# Altium integrated library Renesas Diode.IntLib: 1609 symbols (part 14 of 31)
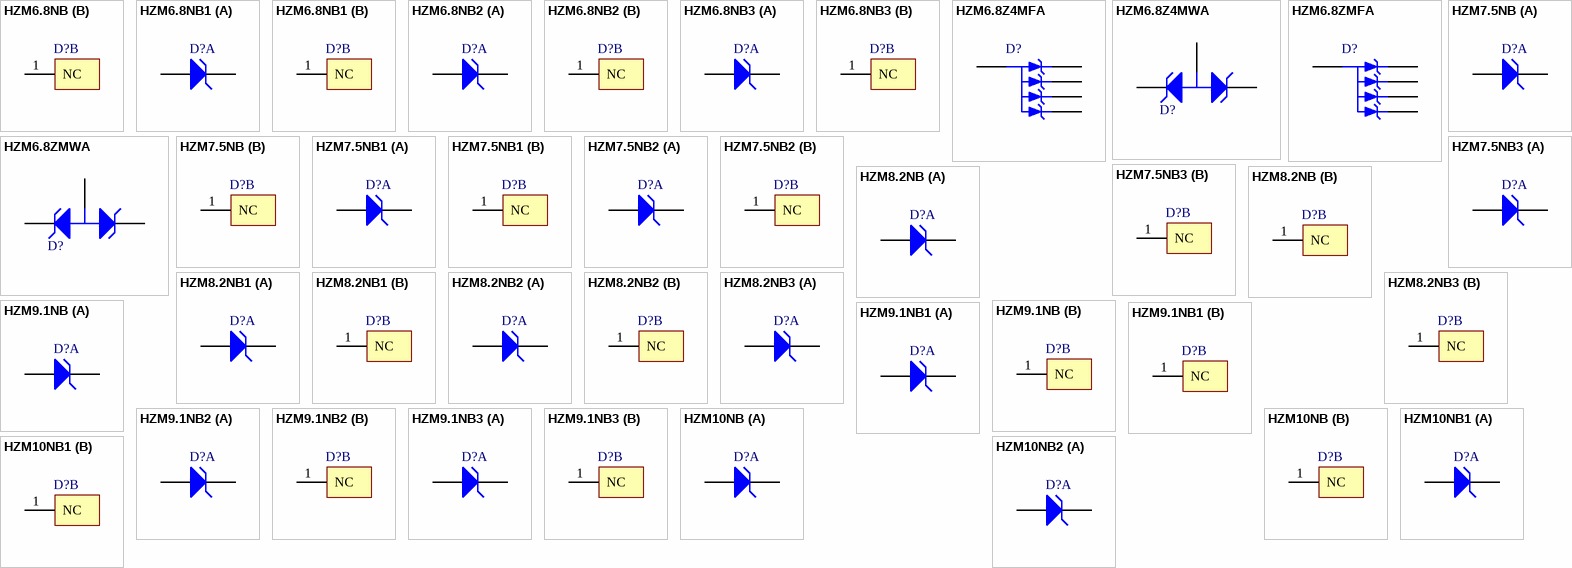
[diagram p58: symbols HZM6.8NB to HZM10NB2]

## HZM6.8Z4MFA
designator D?
Silicon Planar Zener Diode for Surge Absorb; Published: 12-Feb-2010; DatasheetVersion: Rev.1.00, Mar-2004; PackageVersion: Aug-2005; PackageReference: PLSP0005ZC-A; Publisher: Altium Limited; PackageDescription: 5-Pin SOT-23 Package 0.95 mm Pitch, 2.8 mm Lead Span - Reverse Pinning (MPAK-5); Code_JEITA: SC-74A; ComponentLink1Description: Manufacturer Link; ComponentLink1URL: http://sg.renesas.com/fmwk.jsp?cnt=diode_landing.jsp&fp=/products/discrete/diodes/; ComponentLink2Description: Datasheet; ComponentLink2URL: http://documentation.renesas.com/eng/products/diode/rej03g0203_hzm68z4mfa.pdf; ComponentLink3Description: Packaging Specification; ComponentLink3URL: http://sg.renesas.com/media/products/common_info/package/pdf/diode/code/plsp0005zc_a.pdf
footprint PLSP0005ZC-A_N (SOT23, 5-Leads, Body 2.9x1.7mm, Pitch 0.95mm, Lead Span 2.8mm - Reverse Pinning, IPC Medium Density)
footprint PLSP0005ZC-A_L (SOT23, 5-Leads, Body 2.9x1.7mm, Pitch 0.95mm, Lead Span 2.8mm - Reverse Pinning, IPC High Density)
footprint PLSP0005ZC-A_M (SOT23, 5-Leads, Body 2.9x1.7mm, Pitch 0.95mm, Lead Span 2.8mm - Reverse Pinning, IPC Low Density)
signal-integrity model HZM6.8Z4MFA
pins: 1 K1, 2 K2, 3 K3, 4 A, 5 K4

## HZM6.8Z4MWA
designator D?
Silicon Planar Zener Diode for Surge Absorb; Published: 12-Feb-2010; DatasheetVersion: Rev.1.00, Oct-2004; PackageVersion: Aug-2005; PackageReference: PLSP0003ZC-A; Publisher: Altium Limited; PackageDescription: 3-Pin Plastic SOT-23 Package 0.95 mm Pitch, 2.8 mm Lead Span - Alternate Lead Configuration (MPAK); Code_JEITA: SC-59A; ComponentLink1Description: Manufacturer Link; ComponentLink1URL: http://sg.renesas.com/fmwk.jsp?cnt=diode_landing.jsp&fp=/products/discrete/diodes/; ComponentLink2Description: Datasheet; ComponentLink2URL: http://documentation.renesas.com/eng/products/diode/rej03g0369_hzm68z4mwa.pdf; ComponentLink3Description: Packaging Specification; ComponentLink3URL: http://sg.renesas.com/media/products/common_info/package/pdf/diode/code/plsp0003zc_a.pdf
footprint PLSP0003ZC-A_N (SOT23, 3-Leads, Body 2.9x1.5mm, Pitch 0.95mm, Lead Span 2.8mm - Alternate Lead Configuration, IPC Medium Density)
footprint PLSP0003ZC-A_L (SOT23, 3-Leads, Body 2.9x1.5mm, Pitch 0.95mm, Lead Span 2.8mm - Alternate Lead Configuration, IPC High Density)
footprint PLSP0003ZC-A_M (SOT23, 3-Leads, Body 2.9x1.5mm, Pitch 0.95mm, Lead Span 2.8mm - Alternate Lead Configuration, IPC Low Density)
signal-integrity model HZM6.8Z4MWA
pins: 1 K1, 2 K2, 3 A

## HZM6.8ZMFA
designator D?
Silicon Planar Zener Diode for Surge Absorption; Published: 12-Feb-2010; DatasheetVersion: Rev.3.00, Jun-2005; PackageVersion: Aug-2005; PackageReference: PLSP0005ZC-A; Publisher: Altium Limited; PackageDescription: 5-Pin SOT-23 Package 0.95 mm Pitch, 2.8 mm Lead Span - Reverse Pinning (MPAK-5); Code_JEITA: SC-74A; ComponentLink1Description: Manufacturer Link; ComponentLink1URL: http://sg.renesas.com/fmwk.jsp?cnt=diode_landing.jsp&fp=/products/discrete/diodes/; ComponentLink2Description: Datasheet; ComponentLink2URL: http://documentation.renesas.com/eng/products/diode/rej03g1211_hzm68zmfa.pdf; ComponentLink3Description: Packaging Specification; ComponentLink3URL: http://sg.renesas.com/media/products/common_info/package/pdf/diode/code/plsp0005zc_a.pdf
footprint PLSP0005ZC-A_N (SOT23, 5-Leads, Body 2.9x1.7mm, Pitch 0.95mm, Lead Span 2.8mm - Reverse Pinning, IPC Medium Density)
footprint PLSP0005ZC-A_L (SOT23, 5-Leads, Body 2.9x1.7mm, Pitch 0.95mm, Lead Span 2.8mm - Reverse Pinning, IPC High Density)
footprint PLSP0005ZC-A_M (SOT23, 5-Leads, Body 2.9x1.7mm, Pitch 0.95mm, Lead Span 2.8mm - Reverse Pinning, IPC Low Density)
signal-integrity model HZM6.8ZMFA
pins: 1 K1, 2 K2, 3 K3, 4 A, 5 K4

## HZM6.8ZMWA
designator D?
Silicon Planar Zener Diode for Surge Absorption; Published: 12-Feb-2010; DatasheetVersion: Rev.2.00, Jun-2005; PackageVersion: Aug-2005; PackageReference: PLSP0003ZC-A; Publisher: Altium Limited; PackageDescription: 3-Pin Plastic SOT-23 Package 0.95 mm Pitch, 2.8 mm Lead Span - Alternate Lead Configuration (MPAK); Code_JEITA: SC-59A; ComponentLink1Description: Manufacturer Link; ComponentLink1URL: http://sg.renesas.com/fmwk.jsp?cnt=diode_landing.jsp&fp=/products/discrete/diodes/; ComponentLink2Description: Datasheet; ComponentLink2URL: http://documentation.renesas.com/eng/products/diode/rej03g1212_hzm68zmwa.pdf; ComponentLink3Description: Packaging Specification; ComponentLink3URL: http://sg.renesas.com/media/products/common_info/package/pdf/diode/code/plsp0003zc_a.pdf
footprint PLSP0003ZC-A_N (SOT23, 3-Leads, Body 2.9x1.5mm, Pitch 0.95mm, Lead Span 2.8mm - Alternate Lead Configuration, IPC Medium Density)
footprint PLSP0003ZC-A_L (SOT23, 3-Leads, Body 2.9x1.5mm, Pitch 0.95mm, Lead Span 2.8mm - Alternate Lead Configuration, IPC High Density)
footprint PLSP0003ZC-A_M (SOT23, 3-Leads, Body 2.9x1.5mm, Pitch 0.95mm, Lead Span 2.8mm - Alternate Lead Configuration, IPC Low Density)
signal-integrity model HZM6.8ZMWA
pins: 1 K1, 2 K2, 3 A

## HZM7.5NB
designator D?
Silicon Epitaxial Planar Zener Diode for Stabilizer; Published: 12-Feb-2010; DatasheetVersion: Rev.5.00, Dec-2004; PackageVersion: Aug-2005; PackageReference: PLSP0003ZC-A; Publisher: Altium Limited; PackageDescription: 3-Pin Plastic SOT-23 Package 0.95 mm Pitch, 2.8 mm Lead Span - Alternate Lead Configuration (MPAK); Code_JEITA: SC-59A; ComponentLink1Description: Manufacturer Link; ComponentLink1URL: http://sg.renesas.com/fmwk.jsp?cnt=diode_landing.jsp&fp=/products/discrete/diodes/; ComponentLink2Description: Datasheet; ComponentLink2URL: http://documentation.renesas.com/eng/products/diode/rej03g0483_hzm_n.pdf; ComponentLink3Description: Packaging Specification; ComponentLink3URL: http://sg.renesas.com/media/products/common_info/package/pdf/diode/code/plsp0003zc_a.pdf
footprint PLSP0003ZC-A_N (SOT23, 3-Leads, Body 2.9x1.5mm, Pitch 0.95mm, Lead Span 2.8mm - Alternate Lead Configuration, IPC Medium Density)
footprint PLSP0003ZC-A_L (SOT23, 3-Leads, Body 2.9x1.5mm, Pitch 0.95mm, Lead Span 2.8mm - Alternate Lead Configuration, IPC High Density)
footprint PLSP0003ZC-A_M (SOT23, 3-Leads, Body 2.9x1.5mm, Pitch 0.95mm, Lead Span 2.8mm - Alternate Lead Configuration, IPC Low Density)
signal-integrity model HZM7.5NB
part A pins: 2 A, 3 K
part B pins: 1 NC

## HZM7.5NB1
designator D?
Silicon Epitaxial Planar Zener Diode for Stabilizer; Published: 12-Feb-2010; DatasheetVersion: Rev.5.00, Dec-2004; PackageVersion: Aug-2005; PackageReference: PLSP0003ZC-A; Publisher: Altium Limited; PackageDescription: 3-Pin Plastic SOT-23 Package 0.95 mm Pitch, 2.8 mm Lead Span - Alternate Lead Configuration (MPAK); Code_JEITA: SC-59A; ComponentLink1Description: Manufacturer Link; ComponentLink1URL: http://sg.renesas.com/fmwk.jsp?cnt=diode_landing.jsp&fp=/products/discrete/diodes/; ComponentLink2Description: Datasheet; ComponentLink2URL: http://documentation.renesas.com/eng/products/diode/rej03g0483_hzm_n.pdf; ComponentLink3Description: Packaging Specification; ComponentLink3URL: http://sg.renesas.com/media/products/common_info/package/pdf/diode/code/plsp0003zc_a.pdf
footprint PLSP0003ZC-A_N (SOT23, 3-Leads, Body 2.9x1.5mm, Pitch 0.95mm, Lead Span 2.8mm - Alternate Lead Configuration, IPC Medium Density)
footprint PLSP0003ZC-A_L (SOT23, 3-Leads, Body 2.9x1.5mm, Pitch 0.95mm, Lead Span 2.8mm - Alternate Lead Configuration, IPC High Density)
footprint PLSP0003ZC-A_M (SOT23, 3-Leads, Body 2.9x1.5mm, Pitch 0.95mm, Lead Span 2.8mm - Alternate Lead Configuration, IPC Low Density)
signal-integrity model HZM7.5NB1
part A pins: 2 A, 3 K
part B pins: 1 NC

## HZM7.5NB2
designator D?
Silicon Epitaxial Planar Zener Diode for Stabilizer; Published: 12-Feb-2010; DatasheetVersion: Rev.5.00, Dec-2004; PackageVersion: Aug-2005; PackageReference: PLSP0003ZC-A; Publisher: Altium Limited; PackageDescription: 3-Pin Plastic SOT-23 Package 0.95 mm Pitch, 2.8 mm Lead Span - Alternate Lead Configuration (MPAK); Code_JEITA: SC-59A; ComponentLink1Description: Manufacturer Link; ComponentLink1URL: http://sg.renesas.com/fmwk.jsp?cnt=diode_landing.jsp&fp=/products/discrete/diodes/; ComponentLink2Description: Datasheet; ComponentLink2URL: http://documentation.renesas.com/eng/products/diode/rej03g0483_hzm_n.pdf; ComponentLink3Description: Packaging Specification; ComponentLink3URL: http://sg.renesas.com/media/products/common_info/package/pdf/diode/code/plsp0003zc_a.pdf
footprint PLSP0003ZC-A_N (SOT23, 3-Leads, Body 2.9x1.5mm, Pitch 0.95mm, Lead Span 2.8mm - Alternate Lead Configuration, IPC Medium Density)
footprint PLSP0003ZC-A_L (SOT23, 3-Leads, Body 2.9x1.5mm, Pitch 0.95mm, Lead Span 2.8mm - Alternate Lead Configuration, IPC High Density)
footprint PLSP0003ZC-A_M (SOT23, 3-Leads, Body 2.9x1.5mm, Pitch 0.95mm, Lead Span 2.8mm - Alternate Lead Configuration, IPC Low Density)
signal-integrity model HZM7.5NB2
part A pins: 2 A, 3 K
part B pins: 1 NC

## HZM7.5NB3
designator D?
Silicon Epitaxial Planar Zener Diode for Stabilizer; Published: 12-Feb-2010; DatasheetVersion: Rev.5.00, Dec-2004; PackageVersion: Aug-2005; PackageReference: PLSP0003ZC-A; Publisher: Altium Limited; PackageDescription: 3-Pin Plastic SOT-23 Package 0.95 mm Pitch, 2.8 mm Lead Span - Alternate Lead Configuration (MPAK); Code_JEITA: SC-59A; ComponentLink1Description: Manufacturer Link; ComponentLink1URL: http://sg.renesas.com/fmwk.jsp?cnt=diode_landing.jsp&fp=/products/discrete/diodes/; ComponentLink2Description: Datasheet; ComponentLink2URL: http://documentation.renesas.com/eng/products/diode/rej03g0483_hzm_n.pdf; ComponentLink3Description: Packaging Specification; ComponentLink3URL: http://sg.renesas.com/media/products/common_info/package/pdf/diode/code/plsp0003zc_a.pdf
footprint PLSP0003ZC-A_N (SOT23, 3-Leads, Body 2.9x1.5mm, Pitch 0.95mm, Lead Span 2.8mm - Alternate Lead Configuration, IPC Medium Density)
footprint PLSP0003ZC-A_L (SOT23, 3-Leads, Body 2.9x1.5mm, Pitch 0.95mm, Lead Span 2.8mm - Alternate Lead Configuration, IPC High Density)
footprint PLSP0003ZC-A_M (SOT23, 3-Leads, Body 2.9x1.5mm, Pitch 0.95mm, Lead Span 2.8mm - Alternate Lead Configuration, IPC Low Density)
signal-integrity model HZM7.5NB3
part A pins: 2 A, 3 K
part B pins: 1 NC

## HZM8.2NB
designator D?
Silicon Epitaxial Planar Zener Diode for Stabilizer; Published: 12-Feb-2010; DatasheetVersion: Rev.5.00, Dec-2004; PackageVersion: Aug-2005; PackageReference: PLSP0003ZC-A; Publisher: Altium Limited; PackageDescription: 3-Pin Plastic SOT-23 Package 0.95 mm Pitch, 2.8 mm Lead Span - Alternate Lead Configuration (MPAK); Code_JEITA: SC-59A; ComponentLink1Description: Manufacturer Link; ComponentLink1URL: http://sg.renesas.com/fmwk.jsp?cnt=diode_landing.jsp&fp=/products/discrete/diodes/; ComponentLink2Description: Datasheet; ComponentLink2URL: http://documentation.renesas.com/eng/products/diode/rej03g0483_hzm_n.pdf; ComponentLink3Description: Packaging Specification; ComponentLink3URL: http://sg.renesas.com/media/products/common_info/package/pdf/diode/code/plsp0003zc_a.pdf
footprint PLSP0003ZC-A_N (SOT23, 3-Leads, Body 2.9x1.5mm, Pitch 0.95mm, Lead Span 2.8mm - Alternate Lead Configuration, IPC Medium Density)
footprint PLSP0003ZC-A_L (SOT23, 3-Leads, Body 2.9x1.5mm, Pitch 0.95mm, Lead Span 2.8mm - Alternate Lead Configuration, IPC High Density)
footprint PLSP0003ZC-A_M (SOT23, 3-Leads, Body 2.9x1.5mm, Pitch 0.95mm, Lead Span 2.8mm - Alternate Lead Configuration, IPC Low Density)
signal-integrity model HZM8.2NB
part A pins: 2 A, 3 K
part B pins: 1 NC

## HZM8.2NB1
designator D?
Silicon Epitaxial Planar Zener Diode for Stabilizer; Published: 12-Feb-2010; DatasheetVersion: Rev.5.00, Dec-2004; PackageVersion: Aug-2005; PackageReference: PLSP0003ZC-A; Publisher: Altium Limited; PackageDescription: 3-Pin Plastic SOT-23 Package 0.95 mm Pitch, 2.8 mm Lead Span - Alternate Lead Configuration (MPAK); Code_JEITA: SC-59A; ComponentLink1Description: Manufacturer Link; ComponentLink1URL: http://sg.renesas.com/fmwk.jsp?cnt=diode_landing.jsp&fp=/products/discrete/diodes/; ComponentLink2Description: Datasheet; ComponentLink2URL: http://documentation.renesas.com/eng/products/diode/rej03g0483_hzm_n.pdf; ComponentLink3Description: Packaging Specification; ComponentLink3URL: http://sg.renesas.com/media/products/common_info/package/pdf/diode/code/plsp0003zc_a.pdf
footprint PLSP0003ZC-A_N (SOT23, 3-Leads, Body 2.9x1.5mm, Pitch 0.95mm, Lead Span 2.8mm - Alternate Lead Configuration, IPC Medium Density)
footprint PLSP0003ZC-A_L (SOT23, 3-Leads, Body 2.9x1.5mm, Pitch 0.95mm, Lead Span 2.8mm - Alternate Lead Configuration, IPC High Density)
footprint PLSP0003ZC-A_M (SOT23, 3-Leads, Body 2.9x1.5mm, Pitch 0.95mm, Lead Span 2.8mm - Alternate Lead Configuration, IPC Low Density)
signal-integrity model HZM8.2NB1
part A pins: 2 A, 3 K
part B pins: 1 NC

## HZM8.2NB2
designator D?
Silicon Epitaxial Planar Zener Diode for Stabilizer; Published: 12-Feb-2010; DatasheetVersion: Rev.5.00, Dec-2004; PackageVersion: Aug-2005; PackageReference: PLSP0003ZC-A; Publisher: Altium Limited; PackageDescription: 3-Pin Plastic SOT-23 Package 0.95 mm Pitch, 2.8 mm Lead Span - Alternate Lead Configuration (MPAK); Code_JEITA: SC-59A; ComponentLink1Description: Manufacturer Link; ComponentLink1URL: http://sg.renesas.com/fmwk.jsp?cnt=diode_landing.jsp&fp=/products/discrete/diodes/; ComponentLink2Description: Datasheet; ComponentLink2URL: http://documentation.renesas.com/eng/products/diode/rej03g0483_hzm_n.pdf; ComponentLink3Description: Packaging Specification; ComponentLink3URL: http://sg.renesas.com/media/products/common_info/package/pdf/diode/code/plsp0003zc_a.pdf
footprint PLSP0003ZC-A_N (SOT23, 3-Leads, Body 2.9x1.5mm, Pitch 0.95mm, Lead Span 2.8mm - Alternate Lead Configuration, IPC Medium Density)
footprint PLSP0003ZC-A_L (SOT23, 3-Leads, Body 2.9x1.5mm, Pitch 0.95mm, Lead Span 2.8mm - Alternate Lead Configuration, IPC High Density)
footprint PLSP0003ZC-A_M (SOT23, 3-Leads, Body 2.9x1.5mm, Pitch 0.95mm, Lead Span 2.8mm - Alternate Lead Configuration, IPC Low Density)
signal-integrity model HZM8.2NB2
part A pins: 2 A, 3 K
part B pins: 1 NC

## HZM8.2NB3
designator D?
Silicon Epitaxial Planar Zener Diode for Stabilizer; Published: 12-Feb-2010; DatasheetVersion: Rev.5.00, Dec-2004; PackageVersion: Aug-2005; PackageReference: PLSP0003ZC-A; Publisher: Altium Limited; PackageDescription: 3-Pin Plastic SOT-23 Package 0.95 mm Pitch, 2.8 mm Lead Span - Alternate Lead Configuration (MPAK); Code_JEITA: SC-59A; ComponentLink1Description: Manufacturer Link; ComponentLink1URL: http://sg.renesas.com/fmwk.jsp?cnt=diode_landing.jsp&fp=/products/discrete/diodes/; ComponentLink2Description: Datasheet; ComponentLink2URL: http://documentation.renesas.com/eng/products/diode/rej03g0483_hzm_n.pdf; ComponentLink3Description: Packaging Specification; ComponentLink3URL: http://sg.renesas.com/media/products/common_info/package/pdf/diode/code/plsp0003zc_a.pdf
footprint PLSP0003ZC-A_N (SOT23, 3-Leads, Body 2.9x1.5mm, Pitch 0.95mm, Lead Span 2.8mm - Alternate Lead Configuration, IPC Medium Density)
footprint PLSP0003ZC-A_L (SOT23, 3-Leads, Body 2.9x1.5mm, Pitch 0.95mm, Lead Span 2.8mm - Alternate Lead Configuration, IPC High Density)
footprint PLSP0003ZC-A_M (SOT23, 3-Leads, Body 2.9x1.5mm, Pitch 0.95mm, Lead Span 2.8mm - Alternate Lead Configuration, IPC Low Density)
signal-integrity model HZM8.2NB3
part A pins: 2 A, 3 K
part B pins: 1 NC

## HZM9.1NB
designator D?
Silicon Epitaxial Planar Zener Diode for Stabilizer; Published: 12-Feb-2010; DatasheetVersion: Rev.5.00, Dec-2004; PackageVersion: Aug-2005; PackageReference: PLSP0003ZC-A; Publisher: Altium Limited; PackageDescription: 3-Pin Plastic SOT-23 Package 0.95 mm Pitch, 2.8 mm Lead Span - Alternate Lead Configuration (MPAK); Code_JEITA: SC-59A; ComponentLink1Description: Manufacturer Link; ComponentLink1URL: http://sg.renesas.com/fmwk.jsp?cnt=diode_landing.jsp&fp=/products/discrete/diodes/; ComponentLink2Description: Datasheet; ComponentLink2URL: http://documentation.renesas.com/eng/products/diode/rej03g0483_hzm_n.pdf; ComponentLink3Description: Packaging Specification; ComponentLink3URL: http://sg.renesas.com/media/products/common_info/package/pdf/diode/code/plsp0003zc_a.pdf
footprint PLSP0003ZC-A_N (SOT23, 3-Leads, Body 2.9x1.5mm, Pitch 0.95mm, Lead Span 2.8mm - Alternate Lead Configuration, IPC Medium Density)
footprint PLSP0003ZC-A_L (SOT23, 3-Leads, Body 2.9x1.5mm, Pitch 0.95mm, Lead Span 2.8mm - Alternate Lead Configuration, IPC High Density)
footprint PLSP0003ZC-A_M (SOT23, 3-Leads, Body 2.9x1.5mm, Pitch 0.95mm, Lead Span 2.8mm - Alternate Lead Configuration, IPC Low Density)
signal-integrity model HZM9.1NB
part A pins: 2 A, 3 K
part B pins: 1 NC

## HZM9.1NB1
designator D?
Silicon Epitaxial Planar Zener Diode for Stabilizer; Published: 12-Feb-2010; DatasheetVersion: Rev.5.00, Dec-2004; PackageVersion: Aug-2005; PackageReference: PLSP0003ZC-A; Publisher: Altium Limited; PackageDescription: 3-Pin Plastic SOT-23 Package 0.95 mm Pitch, 2.8 mm Lead Span - Alternate Lead Configuration (MPAK); Code_JEITA: SC-59A; ComponentLink1Description: Manufacturer Link; ComponentLink1URL: http://sg.renesas.com/fmwk.jsp?cnt=diode_landing.jsp&fp=/products/discrete/diodes/; ComponentLink2Description: Datasheet; ComponentLink2URL: http://documentation.renesas.com/eng/products/diode/rej03g0483_hzm_n.pdf; ComponentLink3Description: Packaging Specification; ComponentLink3URL: http://sg.renesas.com/media/products/common_info/package/pdf/diode/code/plsp0003zc_a.pdf
footprint PLSP0003ZC-A_N (SOT23, 3-Leads, Body 2.9x1.5mm, Pitch 0.95mm, Lead Span 2.8mm - Alternate Lead Configuration, IPC Medium Density)
footprint PLSP0003ZC-A_L (SOT23, 3-Leads, Body 2.9x1.5mm, Pitch 0.95mm, Lead Span 2.8mm - Alternate Lead Configuration, IPC High Density)
footprint PLSP0003ZC-A_M (SOT23, 3-Leads, Body 2.9x1.5mm, Pitch 0.95mm, Lead Span 2.8mm - Alternate Lead Configuration, IPC Low Density)
signal-integrity model HZM9.1NB1
part A pins: 2 A, 3 K
part B pins: 1 NC

## HZM9.1NB2
designator D?
Silicon Epitaxial Planar Zener Diode for Stabilizer; Published: 12-Feb-2010; DatasheetVersion: Rev.5.00, Dec-2004; PackageVersion: Aug-2005; PackageReference: PLSP0003ZC-A; Publisher: Altium Limited; PackageDescription: 3-Pin Plastic SOT-23 Package 0.95 mm Pitch, 2.8 mm Lead Span - Alternate Lead Configuration (MPAK); Code_JEITA: SC-59A; ComponentLink1Description: Manufacturer Link; ComponentLink1URL: http://sg.renesas.com/fmwk.jsp?cnt=diode_landing.jsp&fp=/products/discrete/diodes/; ComponentLink2Description: Datasheet; ComponentLink2URL: http://documentation.renesas.com/eng/products/diode/rej03g0483_hzm_n.pdf; ComponentLink3Description: Packaging Specification; ComponentLink3URL: http://sg.renesas.com/media/products/common_info/package/pdf/diode/code/plsp0003zc_a.pdf
footprint PLSP0003ZC-A_N (SOT23, 3-Leads, Body 2.9x1.5mm, Pitch 0.95mm, Lead Span 2.8mm - Alternate Lead Configuration, IPC Medium Density)
footprint PLSP0003ZC-A_L (SOT23, 3-Leads, Body 2.9x1.5mm, Pitch 0.95mm, Lead Span 2.8mm - Alternate Lead Configuration, IPC High Density)
footprint PLSP0003ZC-A_M (SOT23, 3-Leads, Body 2.9x1.5mm, Pitch 0.95mm, Lead Span 2.8mm - Alternate Lead Configuration, IPC Low Density)
signal-integrity model HZM9.1NB2
part A pins: 2 A, 3 K
part B pins: 1 NC

## HZM9.1NB3
designator D?
Silicon Epitaxial Planar Zener Diode for Stabilizer; Published: 12-Feb-2010; DatasheetVersion: Rev.5.00, Dec-2004; PackageVersion: Aug-2005; PackageReference: PLSP0003ZC-A; Publisher: Altium Limited; PackageDescription: 3-Pin Plastic SOT-23 Package 0.95 mm Pitch, 2.8 mm Lead Span - Alternate Lead Configuration (MPAK); Code_JEITA: SC-59A; ComponentLink1Description: Manufacturer Link; ComponentLink1URL: http://sg.renesas.com/fmwk.jsp?cnt=diode_landing.jsp&fp=/products/discrete/diodes/; ComponentLink2Description: Datasheet; ComponentLink2URL: http://documentation.renesas.com/eng/products/diode/rej03g0483_hzm_n.pdf; ComponentLink3Description: Packaging Specification; ComponentLink3URL: http://sg.renesas.com/media/products/common_info/package/pdf/diode/code/plsp0003zc_a.pdf
footprint PLSP0003ZC-A_N (SOT23, 3-Leads, Body 2.9x1.5mm, Pitch 0.95mm, Lead Span 2.8mm - Alternate Lead Configuration, IPC Medium Density)
footprint PLSP0003ZC-A_L (SOT23, 3-Leads, Body 2.9x1.5mm, Pitch 0.95mm, Lead Span 2.8mm - Alternate Lead Configuration, IPC High Density)
footprint PLSP0003ZC-A_M (SOT23, 3-Leads, Body 2.9x1.5mm, Pitch 0.95mm, Lead Span 2.8mm - Alternate Lead Configuration, IPC Low Density)
signal-integrity model HZM9.1NB3
part A pins: 2 A, 3 K
part B pins: 1 NC

## HZM10NB
designator D?
Silicon Epitaxial Planar Zener Diode for Stabilizer; Published: 12-Feb-2010; DatasheetVersion: Rev.5.00, Dec-2004; PackageVersion: Aug-2005; PackageReference: PLSP0003ZC-A; Publisher: Altium Limited; PackageDescription: 3-Pin Plastic SOT-23 Package 0.95 mm Pitch, 2.8 mm Lead Span - Alternate Lead Configuration (MPAK); Code_JEITA: SC-59A; ComponentLink1Description: Manufacturer Link; ComponentLink1URL: http://sg.renesas.com/fmwk.jsp?cnt=diode_landing.jsp&fp=/products/discrete/diodes/; ComponentLink2Description: Datasheet; ComponentLink2URL: http://documentation.renesas.com/eng/products/diode/rej03g0483_hzm_n.pdf; ComponentLink3Description: Packaging Specification; ComponentLink3URL: http://sg.renesas.com/media/products/common_info/package/pdf/diode/code/plsp0003zc_a.pdf
footprint PLSP0003ZC-A_N (SOT23, 3-Leads, Body 2.9x1.5mm, Pitch 0.95mm, Lead Span 2.8mm - Alternate Lead Configuration, IPC Medium Density)
footprint PLSP0003ZC-A_L (SOT23, 3-Leads, Body 2.9x1.5mm, Pitch 0.95mm, Lead Span 2.8mm - Alternate Lead Configuration, IPC High Density)
footprint PLSP0003ZC-A_M (SOT23, 3-Leads, Body 2.9x1.5mm, Pitch 0.95mm, Lead Span 2.8mm - Alternate Lead Configuration, IPC Low Density)
signal-integrity model HZM10NB
part A pins: 2 A, 3 K
part B pins: 1 NC

## HZM10NB1
designator D?
Silicon Epitaxial Planar Zener Diode for Stabilizer; Published: 12-Feb-2010; DatasheetVersion: Rev.5.00, Dec-2004; PackageVersion: Aug-2005; PackageReference: PLSP0003ZC-A; Publisher: Altium Limited; PackageDescription: 3-Pin Plastic SOT-23 Package 0.95 mm Pitch, 2.8 mm Lead Span - Alternate Lead Configuration (MPAK); Code_JEITA: SC-59A; ComponentLink1Description: Manufacturer Link; ComponentLink1URL: http://sg.renesas.com/fmwk.jsp?cnt=diode_landing.jsp&fp=/products/discrete/diodes/; ComponentLink2Description: Datasheet; ComponentLink2URL: http://documentation.renesas.com/eng/products/diode/rej03g0483_hzm_n.pdf; ComponentLink3Description: Packaging Specification; ComponentLink3URL: http://sg.renesas.com/media/products/common_info/package/pdf/diode/code/plsp0003zc_a.pdf
footprint PLSP0003ZC-A_N (SOT23, 3-Leads, Body 2.9x1.5mm, Pitch 0.95mm, Lead Span 2.8mm - Alternate Lead Configuration, IPC Medium Density)
footprint PLSP0003ZC-A_L (SOT23, 3-Leads, Body 2.9x1.5mm, Pitch 0.95mm, Lead Span 2.8mm - Alternate Lead Configuration, IPC High Density)
footprint PLSP0003ZC-A_M (SOT23, 3-Leads, Body 2.9x1.5mm, Pitch 0.95mm, Lead Span 2.8mm - Alternate Lead Configuration, IPC Low Density)
signal-integrity model HZM10NB1
part A pins: 2 A, 3 K
part B pins: 1 NC

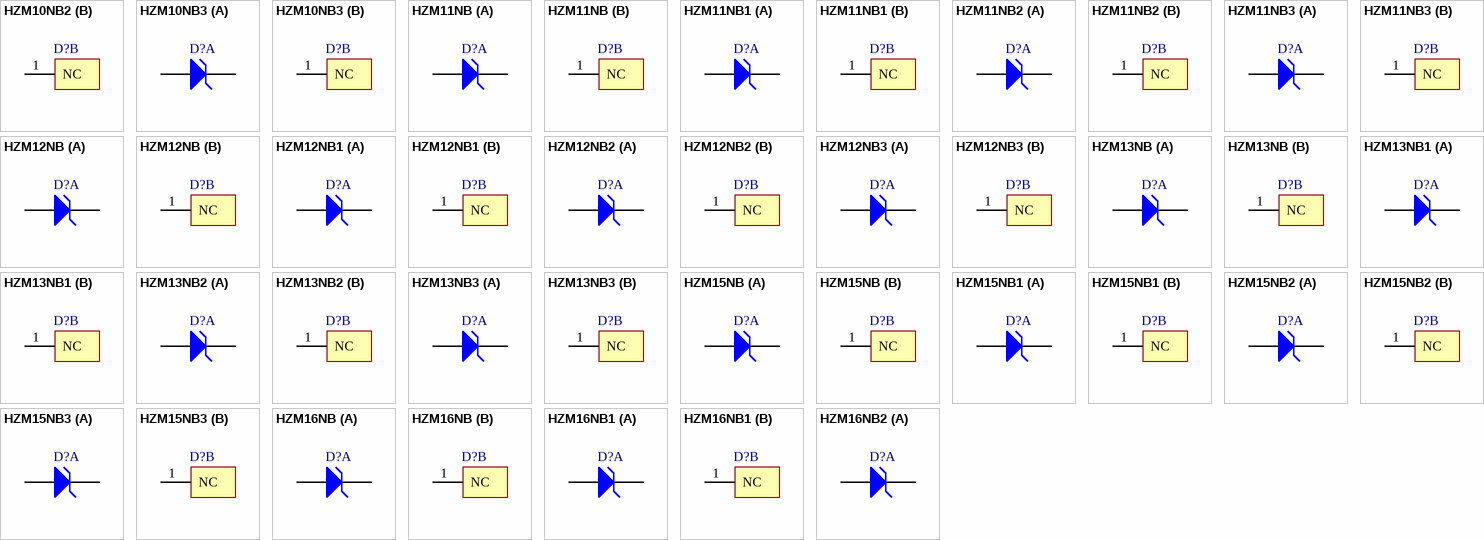
[diagram p19: symbols HZM10NB2 to HZM16NB2]

## HZM10NB2
designator D?
Silicon Epitaxial Planar Zener Diode for Stabilizer; Published: 12-Feb-2010; DatasheetVersion: Rev.5.00, Dec-2004; PackageVersion: Aug-2005; PackageReference: PLSP0003ZC-A; Publisher: Altium Limited; PackageDescription: 3-Pin Plastic SOT-23 Package 0.95 mm Pitch, 2.8 mm Lead Span - Alternate Lead Configuration (MPAK); Code_JEITA: SC-59A; ComponentLink1Description: Manufacturer Link; ComponentLink1URL: http://sg.renesas.com/fmwk.jsp?cnt=diode_landing.jsp&fp=/products/discrete/diodes/; ComponentLink2Description: Datasheet; ComponentLink2URL: http://documentation.renesas.com/eng/products/diode/rej03g0483_hzm_n.pdf; ComponentLink3Description: Packaging Specification; ComponentLink3URL: http://sg.renesas.com/media/products/common_info/package/pdf/diode/code/plsp0003zc_a.pdf
footprint PLSP0003ZC-A_N (SOT23, 3-Leads, Body 2.9x1.5mm, Pitch 0.95mm, Lead Span 2.8mm - Alternate Lead Configuration, IPC Medium Density)
footprint PLSP0003ZC-A_L (SOT23, 3-Leads, Body 2.9x1.5mm, Pitch 0.95mm, Lead Span 2.8mm - Alternate Lead Configuration, IPC High Density)
footprint PLSP0003ZC-A_M (SOT23, 3-Leads, Body 2.9x1.5mm, Pitch 0.95mm, Lead Span 2.8mm - Alternate Lead Configuration, IPC Low Density)
signal-integrity model HZM10NB2
part A pins: 2 A, 3 K
part B pins: 1 NC

## HZM10NB3
designator D?
Silicon Epitaxial Planar Zener Diode for Stabilizer; Published: 12-Feb-2010; DatasheetVersion: Rev.5.00, Dec-2004; PackageVersion: Aug-2005; PackageReference: PLSP0003ZC-A; Publisher: Altium Limited; PackageDescription: 3-Pin Plastic SOT-23 Package 0.95 mm Pitch, 2.8 mm Lead Span - Alternate Lead Configuration (MPAK); Code_JEITA: SC-59A; ComponentLink1Description: Manufacturer Link; ComponentLink1URL: http://sg.renesas.com/fmwk.jsp?cnt=diode_landing.jsp&fp=/products/discrete/diodes/; ComponentLink2Description: Datasheet; ComponentLink2URL: http://documentation.renesas.com/eng/products/diode/rej03g0483_hzm_n.pdf; ComponentLink3Description: Packaging Specification; ComponentLink3URL: http://sg.renesas.com/media/products/common_info/package/pdf/diode/code/plsp0003zc_a.pdf
footprint PLSP0003ZC-A_N (SOT23, 3-Leads, Body 2.9x1.5mm, Pitch 0.95mm, Lead Span 2.8mm - Alternate Lead Configuration, IPC Medium Density)
footprint PLSP0003ZC-A_L (SOT23, 3-Leads, Body 2.9x1.5mm, Pitch 0.95mm, Lead Span 2.8mm - Alternate Lead Configuration, IPC High Density)
footprint PLSP0003ZC-A_M (SOT23, 3-Leads, Body 2.9x1.5mm, Pitch 0.95mm, Lead Span 2.8mm - Alternate Lead Configuration, IPC Low Density)
signal-integrity model HZM10NB3
part A pins: 2 A, 3 K
part B pins: 1 NC

## HZM11NB
designator D?
Silicon Epitaxial Planar Zener Diode for Stabilizer; Published: 12-Feb-2010; DatasheetVersion: Rev.5.00, Dec-2004; PackageVersion: Aug-2005; PackageReference: PLSP0003ZC-A; Publisher: Altium Limited; PackageDescription: 3-Pin Plastic SOT-23 Package 0.95 mm Pitch, 2.8 mm Lead Span - Alternate Lead Configuration (MPAK); Code_JEITA: SC-59A; ComponentLink1Description: Manufacturer Link; ComponentLink1URL: http://sg.renesas.com/fmwk.jsp?cnt=diode_landing.jsp&fp=/products/discrete/diodes/; ComponentLink2Description: Datasheet; ComponentLink2URL: http://documentation.renesas.com/eng/products/diode/rej03g0483_hzm_n.pdf; ComponentLink3Description: Packaging Specification; ComponentLink3URL: http://sg.renesas.com/media/products/common_info/package/pdf/diode/code/plsp0003zc_a.pdf
footprint PLSP0003ZC-A_N (SOT23, 3-Leads, Body 2.9x1.5mm, Pitch 0.95mm, Lead Span 2.8mm - Alternate Lead Configuration, IPC Medium Density)
footprint PLSP0003ZC-A_L (SOT23, 3-Leads, Body 2.9x1.5mm, Pitch 0.95mm, Lead Span 2.8mm - Alternate Lead Configuration, IPC High Density)
footprint PLSP0003ZC-A_M (SOT23, 3-Leads, Body 2.9x1.5mm, Pitch 0.95mm, Lead Span 2.8mm - Alternate Lead Configuration, IPC Low Density)
signal-integrity model HZM11NB
part A pins: 2 A, 3 K
part B pins: 1 NC

## HZM11NB1
designator D?
Silicon Epitaxial Planar Zener Diode for Stabilizer; Published: 12-Feb-2010; DatasheetVersion: Rev.5.00, Dec-2004; PackageVersion: Aug-2005; PackageReference: PLSP0003ZC-A; Publisher: Altium Limited; PackageDescription: 3-Pin Plastic SOT-23 Package 0.95 mm Pitch, 2.8 mm Lead Span - Alternate Lead Configuration (MPAK); Code_JEITA: SC-59A; ComponentLink1Description: Manufacturer Link; ComponentLink1URL: http://sg.renesas.com/fmwk.jsp?cnt=diode_landing.jsp&fp=/products/discrete/diodes/; ComponentLink2Description: Datasheet; ComponentLink2URL: http://documentation.renesas.com/eng/products/diode/rej03g0483_hzm_n.pdf; ComponentLink3Description: Packaging Specification; ComponentLink3URL: http://sg.renesas.com/media/products/common_info/package/pdf/diode/code/plsp0003zc_a.pdf
footprint PLSP0003ZC-A_N (SOT23, 3-Leads, Body 2.9x1.5mm, Pitch 0.95mm, Lead Span 2.8mm - Alternate Lead Configuration, IPC Medium Density)
footprint PLSP0003ZC-A_L (SOT23, 3-Leads, Body 2.9x1.5mm, Pitch 0.95mm, Lead Span 2.8mm - Alternate Lead Configuration, IPC High Density)
footprint PLSP0003ZC-A_M (SOT23, 3-Leads, Body 2.9x1.5mm, Pitch 0.95mm, Lead Span 2.8mm - Alternate Lead Configuration, IPC Low Density)
signal-integrity model HZM11NB1
part A pins: 2 A, 3 K
part B pins: 1 NC

## HZM11NB2
designator D?
Silicon Epitaxial Planar Zener Diode for Stabilizer; Published: 12-Feb-2010; DatasheetVersion: Rev.5.00, Dec-2004; PackageVersion: Aug-2005; PackageReference: PLSP0003ZC-A; Publisher: Altium Limited; PackageDescription: 3-Pin Plastic SOT-23 Package 0.95 mm Pitch, 2.8 mm Lead Span - Alternate Lead Configuration (MPAK); Code_JEITA: SC-59A; ComponentLink1Description: Manufacturer Link; ComponentLink1URL: http://sg.renesas.com/fmwk.jsp?cnt=diode_landing.jsp&fp=/products/discrete/diodes/; ComponentLink2Description: Datasheet; ComponentLink2URL: http://documentation.renesas.com/eng/products/diode/rej03g0483_hzm_n.pdf; ComponentLink3Description: Packaging Specification; ComponentLink3URL: http://sg.renesas.com/media/products/common_info/package/pdf/diode/code/plsp0003zc_a.pdf
footprint PLSP0003ZC-A_N (SOT23, 3-Leads, Body 2.9x1.5mm, Pitch 0.95mm, Lead Span 2.8mm - Alternate Lead Configuration, IPC Medium Density)
footprint PLSP0003ZC-A_L (SOT23, 3-Leads, Body 2.9x1.5mm, Pitch 0.95mm, Lead Span 2.8mm - Alternate Lead Configuration, IPC High Density)
footprint PLSP0003ZC-A_M (SOT23, 3-Leads, Body 2.9x1.5mm, Pitch 0.95mm, Lead Span 2.8mm - Alternate Lead Configuration, IPC Low Density)
signal-integrity model HZM11NB2
part A pins: 2 A, 3 K
part B pins: 1 NC

## HZM11NB3
designator D?
Silicon Epitaxial Planar Zener Diode for Stabilizer; Published: 12-Feb-2010; DatasheetVersion: Rev.5.00, Dec-2004; PackageVersion: Aug-2005; PackageReference: PLSP0003ZC-A; Publisher: Altium Limited; PackageDescription: 3-Pin Plastic SOT-23 Package 0.95 mm Pitch, 2.8 mm Lead Span - Alternate Lead Configuration (MPAK); Code_JEITA: SC-59A; ComponentLink1Description: Manufacturer Link; ComponentLink1URL: http://sg.renesas.com/fmwk.jsp?cnt=diode_landing.jsp&fp=/products/discrete/diodes/; ComponentLink2Description: Datasheet; ComponentLink2URL: http://documentation.renesas.com/eng/products/diode/rej03g0483_hzm_n.pdf; ComponentLink3Description: Packaging Specification; ComponentLink3URL: http://sg.renesas.com/media/products/common_info/package/pdf/diode/code/plsp0003zc_a.pdf
footprint PLSP0003ZC-A_N (SOT23, 3-Leads, Body 2.9x1.5mm, Pitch 0.95mm, Lead Span 2.8mm - Alternate Lead Configuration, IPC Medium Density)
footprint PLSP0003ZC-A_L (SOT23, 3-Leads, Body 2.9x1.5mm, Pitch 0.95mm, Lead Span 2.8mm - Alternate Lead Configuration, IPC High Density)
footprint PLSP0003ZC-A_M (SOT23, 3-Leads, Body 2.9x1.5mm, Pitch 0.95mm, Lead Span 2.8mm - Alternate Lead Configuration, IPC Low Density)
signal-integrity model HZM11NB3
part A pins: 2 A, 3 K
part B pins: 1 NC

## HZM12NB
designator D?
Silicon Epitaxial Planar Zener Diode for Stabilizer; Published: 12-Feb-2010; DatasheetVersion: Rev.5.00, Dec-2004; PackageVersion: Aug-2005; PackageReference: PLSP0003ZC-A; Publisher: Altium Limited; PackageDescription: 3-Pin Plastic SOT-23 Package 0.95 mm Pitch, 2.8 mm Lead Span - Alternate Lead Configuration (MPAK); Code_JEITA: SC-59A; ComponentLink1Description: Manufacturer Link; ComponentLink1URL: http://sg.renesas.com/fmwk.jsp?cnt=diode_landing.jsp&fp=/products/discrete/diodes/; ComponentLink2Description: Datasheet; ComponentLink2URL: http://documentation.renesas.com/eng/products/diode/rej03g0483_hzm_n.pdf; ComponentLink3Description: Packaging Specification; ComponentLink3URL: http://sg.renesas.com/media/products/common_info/package/pdf/diode/code/plsp0003zc_a.pdf
footprint PLSP0003ZC-A_N (SOT23, 3-Leads, Body 2.9x1.5mm, Pitch 0.95mm, Lead Span 2.8mm - Alternate Lead Configuration, IPC Medium Density)
footprint PLSP0003ZC-A_L (SOT23, 3-Leads, Body 2.9x1.5mm, Pitch 0.95mm, Lead Span 2.8mm - Alternate Lead Configuration, IPC High Density)
footprint PLSP0003ZC-A_M (SOT23, 3-Leads, Body 2.9x1.5mm, Pitch 0.95mm, Lead Span 2.8mm - Alternate Lead Configuration, IPC Low Density)
signal-integrity model HZM12NB
part A pins: 2 A, 3 K
part B pins: 1 NC

## HZM12NB1
designator D?
Silicon Epitaxial Planar Zener Diode for Stabilizer; Published: 12-Feb-2010; DatasheetVersion: Rev.5.00, Dec-2004; PackageVersion: Aug-2005; PackageReference: PLSP0003ZC-A; Publisher: Altium Limited; PackageDescription: 3-Pin Plastic SOT-23 Package 0.95 mm Pitch, 2.8 mm Lead Span - Alternate Lead Configuration (MPAK); Code_JEITA: SC-59A; ComponentLink1Description: Manufacturer Link; ComponentLink1URL: http://sg.renesas.com/fmwk.jsp?cnt=diode_landing.jsp&fp=/products/discrete/diodes/; ComponentLink2Description: Datasheet; ComponentLink2URL: http://documentation.renesas.com/eng/products/diode/rej03g0483_hzm_n.pdf; ComponentLink3Description: Packaging Specification; ComponentLink3URL: http://sg.renesas.com/media/products/common_info/package/pdf/diode/code/plsp0003zc_a.pdf
footprint PLSP0003ZC-A_N (SOT23, 3-Leads, Body 2.9x1.5mm, Pitch 0.95mm, Lead Span 2.8mm - Alternate Lead Configuration, IPC Medium Density)
footprint PLSP0003ZC-A_L (SOT23, 3-Leads, Body 2.9x1.5mm, Pitch 0.95mm, Lead Span 2.8mm - Alternate Lead Configuration, IPC High Density)
footprint PLSP0003ZC-A_M (SOT23, 3-Leads, Body 2.9x1.5mm, Pitch 0.95mm, Lead Span 2.8mm - Alternate Lead Configuration, IPC Low Density)
signal-integrity model HZM12NB1
part A pins: 2 A, 3 K
part B pins: 1 NC

## HZM12NB2
designator D?
Silicon Epitaxial Planar Zener Diode for Stabilizer; Published: 12-Feb-2010; DatasheetVersion: Rev.5.00, Dec-2004; PackageVersion: Aug-2005; PackageReference: PLSP0003ZC-A; Publisher: Altium Limited; PackageDescription: 3-Pin Plastic SOT-23 Package 0.95 mm Pitch, 2.8 mm Lead Span - Alternate Lead Configuration (MPAK); Code_JEITA: SC-59A; ComponentLink1Description: Manufacturer Link; ComponentLink1URL: http://sg.renesas.com/fmwk.jsp?cnt=diode_landing.jsp&fp=/products/discrete/diodes/; ComponentLink2Description: Datasheet; ComponentLink2URL: http://documentation.renesas.com/eng/products/diode/rej03g0483_hzm_n.pdf; ComponentLink3Description: Packaging Specification; ComponentLink3URL: http://sg.renesas.com/media/products/common_info/package/pdf/diode/code/plsp0003zc_a.pdf
footprint PLSP0003ZC-A_N (SOT23, 3-Leads, Body 2.9x1.5mm, Pitch 0.95mm, Lead Span 2.8mm - Alternate Lead Configuration, IPC Medium Density)
footprint PLSP0003ZC-A_L (SOT23, 3-Leads, Body 2.9x1.5mm, Pitch 0.95mm, Lead Span 2.8mm - Alternate Lead Configuration, IPC High Density)
footprint PLSP0003ZC-A_M (SOT23, 3-Leads, Body 2.9x1.5mm, Pitch 0.95mm, Lead Span 2.8mm - Alternate Lead Configuration, IPC Low Density)
signal-integrity model HZM12NB2
part A pins: 2 A, 3 K
part B pins: 1 NC

## HZM12NB3
designator D?
Silicon Epitaxial Planar Zener Diode for Stabilizer; Published: 12-Feb-2010; DatasheetVersion: Rev.5.00, Dec-2004; PackageVersion: Aug-2005; PackageReference: PLSP0003ZC-A; Publisher: Altium Limited; PackageDescription: 3-Pin Plastic SOT-23 Package 0.95 mm Pitch, 2.8 mm Lead Span - Alternate Lead Configuration (MPAK); Code_JEITA: SC-59A; ComponentLink1Description: Manufacturer Link; ComponentLink1URL: http://sg.renesas.com/fmwk.jsp?cnt=diode_landing.jsp&fp=/products/discrete/diodes/; ComponentLink2Description: Datasheet; ComponentLink2URL: http://documentation.renesas.com/eng/products/diode/rej03g0483_hzm_n.pdf; ComponentLink3Description: Packaging Specification; ComponentLink3URL: http://sg.renesas.com/media/products/common_info/package/pdf/diode/code/plsp0003zc_a.pdf
footprint PLSP0003ZC-A_N (SOT23, 3-Leads, Body 2.9x1.5mm, Pitch 0.95mm, Lead Span 2.8mm - Alternate Lead Configuration, IPC Medium Density)
footprint PLSP0003ZC-A_L (SOT23, 3-Leads, Body 2.9x1.5mm, Pitch 0.95mm, Lead Span 2.8mm - Alternate Lead Configuration, IPC High Density)
footprint PLSP0003ZC-A_M (SOT23, 3-Leads, Body 2.9x1.5mm, Pitch 0.95mm, Lead Span 2.8mm - Alternate Lead Configuration, IPC Low Density)
signal-integrity model HZM12NB3
part A pins: 2 A, 3 K
part B pins: 1 NC

## HZM13NB
designator D?
Silicon Epitaxial Planar Zener Diode for Stabilizer; Published: 12-Feb-2010; DatasheetVersion: Rev.5.00, Dec-2004; PackageVersion: Aug-2005; PackageReference: PLSP0003ZC-A; Publisher: Altium Limited; PackageDescription: 3-Pin Plastic SOT-23 Package 0.95 mm Pitch, 2.8 mm Lead Span - Alternate Lead Configuration (MPAK); Code_JEITA: SC-59A; ComponentLink1Description: Manufacturer Link; ComponentLink1URL: http://sg.renesas.com/fmwk.jsp?cnt=diode_landing.jsp&fp=/products/discrete/diodes/; ComponentLink2Description: Datasheet; ComponentLink2URL: http://documentation.renesas.com/eng/products/diode/rej03g0483_hzm_n.pdf; ComponentLink3Description: Packaging Specification; ComponentLink3URL: http://sg.renesas.com/media/products/common_info/package/pdf/diode/code/plsp0003zc_a.pdf
footprint PLSP0003ZC-A_N (SOT23, 3-Leads, Body 2.9x1.5mm, Pitch 0.95mm, Lead Span 2.8mm - Alternate Lead Configuration, IPC Medium Density)
footprint PLSP0003ZC-A_L (SOT23, 3-Leads, Body 2.9x1.5mm, Pitch 0.95mm, Lead Span 2.8mm - Alternate Lead Configuration, IPC High Density)
footprint PLSP0003ZC-A_M (SOT23, 3-Leads, Body 2.9x1.5mm, Pitch 0.95mm, Lead Span 2.8mm - Alternate Lead Configuration, IPC Low Density)
signal-integrity model HZM13NB
part A pins: 2 A, 3 K
part B pins: 1 NC

## HZM13NB1
designator D?
Silicon Epitaxial Planar Zener Diode for Stabilizer; Published: 12-Feb-2010; DatasheetVersion: Rev.5.00, Dec-2004; PackageVersion: Aug-2005; PackageReference: PLSP0003ZC-A; Publisher: Altium Limited; PackageDescription: 3-Pin Plastic SOT-23 Package 0.95 mm Pitch, 2.8 mm Lead Span - Alternate Lead Configuration (MPAK); Code_JEITA: SC-59A; ComponentLink1Description: Manufacturer Link; ComponentLink1URL: http://sg.renesas.com/fmwk.jsp?cnt=diode_landing.jsp&fp=/products/discrete/diodes/; ComponentLink2Description: Datasheet; ComponentLink2URL: http://documentation.renesas.com/eng/products/diode/rej03g0483_hzm_n.pdf; ComponentLink3Description: Packaging Specification; ComponentLink3URL: http://sg.renesas.com/media/products/common_info/package/pdf/diode/code/plsp0003zc_a.pdf
footprint PLSP0003ZC-A_N (SOT23, 3-Leads, Body 2.9x1.5mm, Pitch 0.95mm, Lead Span 2.8mm - Alternate Lead Configuration, IPC Medium Density)
footprint PLSP0003ZC-A_L (SOT23, 3-Leads, Body 2.9x1.5mm, Pitch 0.95mm, Lead Span 2.8mm - Alternate Lead Configuration, IPC High Density)
footprint PLSP0003ZC-A_M (SOT23, 3-Leads, Body 2.9x1.5mm, Pitch 0.95mm, Lead Span 2.8mm - Alternate Lead Configuration, IPC Low Density)
signal-integrity model HZM13NB1
part A pins: 2 A, 3 K
part B pins: 1 NC

## HZM13NB2
designator D?
Silicon Epitaxial Planar Zener Diode for Stabilizer; Published: 12-Feb-2010; DatasheetVersion: Rev.5.00, Dec-2004; PackageVersion: Aug-2005; PackageReference: PLSP0003ZC-A; Publisher: Altium Limited; PackageDescription: 3-Pin Plastic SOT-23 Package 0.95 mm Pitch, 2.8 mm Lead Span - Alternate Lead Configuration (MPAK); Code_JEITA: SC-59A; ComponentLink1Description: Manufacturer Link; ComponentLink1URL: http://sg.renesas.com/fmwk.jsp?cnt=diode_landing.jsp&fp=/products/discrete/diodes/; ComponentLink2Description: Datasheet; ComponentLink2URL: http://documentation.renesas.com/eng/products/diode/rej03g0483_hzm_n.pdf; ComponentLink3Description: Packaging Specification; ComponentLink3URL: http://sg.renesas.com/media/products/common_info/package/pdf/diode/code/plsp0003zc_a.pdf
footprint PLSP0003ZC-A_N (SOT23, 3-Leads, Body 2.9x1.5mm, Pitch 0.95mm, Lead Span 2.8mm - Alternate Lead Configuration, IPC Medium Density)
footprint PLSP0003ZC-A_L (SOT23, 3-Leads, Body 2.9x1.5mm, Pitch 0.95mm, Lead Span 2.8mm - Alternate Lead Configuration, IPC High Density)
footprint PLSP0003ZC-A_M (SOT23, 3-Leads, Body 2.9x1.5mm, Pitch 0.95mm, Lead Span 2.8mm - Alternate Lead Configuration, IPC Low Density)
signal-integrity model HZM13NB2
part A pins: 2 A, 3 K
part B pins: 1 NC

## HZM13NB3
designator D?
Silicon Epitaxial Planar Zener Diode for Stabilizer; Published: 12-Feb-2010; DatasheetVersion: Rev.5.00, Dec-2004; PackageVersion: Aug-2005; PackageReference: PLSP0003ZC-A; Publisher: Altium Limited; PackageDescription: 3-Pin Plastic SOT-23 Package 0.95 mm Pitch, 2.8 mm Lead Span - Alternate Lead Configuration (MPAK); Code_JEITA: SC-59A; ComponentLink1Description: Manufacturer Link; ComponentLink1URL: http://sg.renesas.com/fmwk.jsp?cnt=diode_landing.jsp&fp=/products/discrete/diodes/; ComponentLink2Description: Datasheet; ComponentLink2URL: http://documentation.renesas.com/eng/products/diode/rej03g0483_hzm_n.pdf; ComponentLink3Description: Packaging Specification; ComponentLink3URL: http://sg.renesas.com/media/products/common_info/package/pdf/diode/code/plsp0003zc_a.pdf
footprint PLSP0003ZC-A_N (SOT23, 3-Leads, Body 2.9x1.5mm, Pitch 0.95mm, Lead Span 2.8mm - Alternate Lead Configuration, IPC Medium Density)
footprint PLSP0003ZC-A_L (SOT23, 3-Leads, Body 2.9x1.5mm, Pitch 0.95mm, Lead Span 2.8mm - Alternate Lead Configuration, IPC High Density)
footprint PLSP0003ZC-A_M (SOT23, 3-Leads, Body 2.9x1.5mm, Pitch 0.95mm, Lead Span 2.8mm - Alternate Lead Configuration, IPC Low Density)
signal-integrity model HZM13NB3
part A pins: 2 A, 3 K
part B pins: 1 NC

## HZM15NB
designator D?
Silicon Epitaxial Planar Zener Diode for Stabilizer; Published: 12-Feb-2010; DatasheetVersion: Rev.5.00, Dec-2004; PackageVersion: Aug-2005; PackageReference: PLSP0003ZC-A; Publisher: Altium Limited; PackageDescription: 3-Pin Plastic SOT-23 Package 0.95 mm Pitch, 2.8 mm Lead Span - Alternate Lead Configuration (MPAK); Code_JEITA: SC-59A; ComponentLink1Description: Manufacturer Link; ComponentLink1URL: http://sg.renesas.com/fmwk.jsp?cnt=diode_landing.jsp&fp=/products/discrete/diodes/; ComponentLink2Description: Datasheet; ComponentLink2URL: http://documentation.renesas.com/eng/products/diode/rej03g0483_hzm_n.pdf; ComponentLink3Description: Packaging Specification; ComponentLink3URL: http://sg.renesas.com/media/products/common_info/package/pdf/diode/code/plsp0003zc_a.pdf
footprint PLSP0003ZC-A_N (SOT23, 3-Leads, Body 2.9x1.5mm, Pitch 0.95mm, Lead Span 2.8mm - Alternate Lead Configuration, IPC Medium Density)
footprint PLSP0003ZC-A_L (SOT23, 3-Leads, Body 2.9x1.5mm, Pitch 0.95mm, Lead Span 2.8mm - Alternate Lead Configuration, IPC High Density)
footprint PLSP0003ZC-A_M (SOT23, 3-Leads, Body 2.9x1.5mm, Pitch 0.95mm, Lead Span 2.8mm - Alternate Lead Configuration, IPC Low Density)
signal-integrity model HZM15NB
part A pins: 2 A, 3 K
part B pins: 1 NC

## HZM15NB1
designator D?
Silicon Epitaxial Planar Zener Diode for Stabilizer; Published: 12-Feb-2010; DatasheetVersion: Rev.5.00, Dec-2004; PackageVersion: Aug-2005; PackageReference: PLSP0003ZC-A; Publisher: Altium Limited; PackageDescription: 3-Pin Plastic SOT-23 Package 0.95 mm Pitch, 2.8 mm Lead Span - Alternate Lead Configuration (MPAK); Code_JEITA: SC-59A; ComponentLink1Description: Manufacturer Link; ComponentLink1URL: http://sg.renesas.com/fmwk.jsp?cnt=diode_landing.jsp&fp=/products/discrete/diodes/; ComponentLink2Description: Datasheet; ComponentLink2URL: http://documentation.renesas.com/eng/products/diode/rej03g0483_hzm_n.pdf; ComponentLink3Description: Packaging Specification; ComponentLink3URL: http://sg.renesas.com/media/products/common_info/package/pdf/diode/code/plsp0003zc_a.pdf
footprint PLSP0003ZC-A_N (SOT23, 3-Leads, Body 2.9x1.5mm, Pitch 0.95mm, Lead Span 2.8mm - Alternate Lead Configuration, IPC Medium Density)
footprint PLSP0003ZC-A_L (SOT23, 3-Leads, Body 2.9x1.5mm, Pitch 0.95mm, Lead Span 2.8mm - Alternate Lead Configuration, IPC High Density)
footprint PLSP0003ZC-A_M (SOT23, 3-Leads, Body 2.9x1.5mm, Pitch 0.95mm, Lead Span 2.8mm - Alternate Lead Configuration, IPC Low Density)
signal-integrity model HZM15NB1
part A pins: 2 A, 3 K
part B pins: 1 NC

## HZM15NB2
designator D?
Silicon Epitaxial Planar Zener Diode for Stabilizer; Published: 12-Feb-2010; DatasheetVersion: Rev.5.00, Dec-2004; PackageVersion: Aug-2005; PackageReference: PLSP0003ZC-A; Publisher: Altium Limited; PackageDescription: 3-Pin Plastic SOT-23 Package 0.95 mm Pitch, 2.8 mm Lead Span - Alternate Lead Configuration (MPAK); Code_JEITA: SC-59A; ComponentLink1Description: Manufacturer Link; ComponentLink1URL: http://sg.renesas.com/fmwk.jsp?cnt=diode_landing.jsp&fp=/products/discrete/diodes/; ComponentLink2Description: Datasheet; ComponentLink2URL: http://documentation.renesas.com/eng/products/diode/rej03g0483_hzm_n.pdf; ComponentLink3Description: Packaging Specification; ComponentLink3URL: http://sg.renesas.com/media/products/common_info/package/pdf/diode/code/plsp0003zc_a.pdf
footprint PLSP0003ZC-A_N (SOT23, 3-Leads, Body 2.9x1.5mm, Pitch 0.95mm, Lead Span 2.8mm - Alternate Lead Configuration, IPC Medium Density)
footprint PLSP0003ZC-A_L (SOT23, 3-Leads, Body 2.9x1.5mm, Pitch 0.95mm, Lead Span 2.8mm - Alternate Lead Configuration, IPC High Density)
footprint PLSP0003ZC-A_M (SOT23, 3-Leads, Body 2.9x1.5mm, Pitch 0.95mm, Lead Span 2.8mm - Alternate Lead Configuration, IPC Low Density)
signal-integrity model HZM15NB2
part A pins: 2 A, 3 K
part B pins: 1 NC

## HZM15NB3
designator D?
Silicon Epitaxial Planar Zener Diode for Stabilizer; Published: 12-Feb-2010; DatasheetVersion: Rev.5.00, Dec-2004; PackageVersion: Aug-2005; PackageReference: PLSP0003ZC-A; Publisher: Altium Limited; PackageDescription: 3-Pin Plastic SOT-23 Package 0.95 mm Pitch, 2.8 mm Lead Span - Alternate Lead Configuration (MPAK); Code_JEITA: SC-59A; ComponentLink1Description: Manufacturer Link; ComponentLink1URL: http://sg.renesas.com/fmwk.jsp?cnt=diode_landing.jsp&fp=/products/discrete/diodes/; ComponentLink2Description: Datasheet; ComponentLink2URL: http://documentation.renesas.com/eng/products/diode/rej03g0483_hzm_n.pdf; ComponentLink3Description: Packaging Specification; ComponentLink3URL: http://sg.renesas.com/media/products/common_info/package/pdf/diode/code/plsp0003zc_a.pdf
footprint PLSP0003ZC-A_N (SOT23, 3-Leads, Body 2.9x1.5mm, Pitch 0.95mm, Lead Span 2.8mm - Alternate Lead Configuration, IPC Medium Density)
footprint PLSP0003ZC-A_L (SOT23, 3-Leads, Body 2.9x1.5mm, Pitch 0.95mm, Lead Span 2.8mm - Alternate Lead Configuration, IPC High Density)
footprint PLSP0003ZC-A_M (SOT23, 3-Leads, Body 2.9x1.5mm, Pitch 0.95mm, Lead Span 2.8mm - Alternate Lead Configuration, IPC Low Density)
signal-integrity model HZM15NB3
part A pins: 2 A, 3 K
part B pins: 1 NC

## HZM16NB
designator D?
Silicon Epitaxial Planar Zener Diode for Stabilizer; Published: 12-Feb-2010; DatasheetVersion: Rev.5.00, Dec-2004; PackageVersion: Aug-2005; PackageReference: PLSP0003ZC-A; Publisher: Altium Limited; PackageDescription: 3-Pin Plastic SOT-23 Package 0.95 mm Pitch, 2.8 mm Lead Span - Alternate Lead Configuration (MPAK); Code_JEITA: SC-59A; ComponentLink1Description: Manufacturer Link; ComponentLink1URL: http://sg.renesas.com/fmwk.jsp?cnt=diode_landing.jsp&fp=/products/discrete/diodes/; ComponentLink2Description: Datasheet; ComponentLink2URL: http://documentation.renesas.com/eng/products/diode/rej03g0483_hzm_n.pdf; ComponentLink3Description: Packaging Specification; ComponentLink3URL: http://sg.renesas.com/media/products/common_info/package/pdf/diode/code/plsp0003zc_a.pdf
footprint PLSP0003ZC-A_N (SOT23, 3-Leads, Body 2.9x1.5mm, Pitch 0.95mm, Lead Span 2.8mm - Alternate Lead Configuration, IPC Medium Density)
footprint PLSP0003ZC-A_L (SOT23, 3-Leads, Body 2.9x1.5mm, Pitch 0.95mm, Lead Span 2.8mm - Alternate Lead Configuration, IPC High Density)
footprint PLSP0003ZC-A_M (SOT23, 3-Leads, Body 2.9x1.5mm, Pitch 0.95mm, Lead Span 2.8mm - Alternate Lead Configuration, IPC Low Density)
signal-integrity model HZM16NB
part A pins: 2 A, 3 K
part B pins: 1 NC

## HZM16NB1
designator D?
Silicon Epitaxial Planar Zener Diode for Stabilizer; Published: 12-Feb-2010; DatasheetVersion: Rev.5.00, Dec-2004; PackageVersion: Aug-2005; PackageReference: PLSP0003ZC-A; Publisher: Altium Limited; PackageDescription: 3-Pin Plastic SOT-23 Package 0.95 mm Pitch, 2.8 mm Lead Span - Alternate Lead Configuration (MPAK); Code_JEITA: SC-59A; ComponentLink1Description: Manufacturer Link; ComponentLink1URL: http://sg.renesas.com/fmwk.jsp?cnt=diode_landing.jsp&fp=/products/discrete/diodes/; ComponentLink2Description: Datasheet; ComponentLink2URL: http://documentation.renesas.com/eng/products/diode/rej03g0483_hzm_n.pdf; ComponentLink3Description: Packaging Specification; ComponentLink3URL: http://sg.renesas.com/media/products/common_info/package/pdf/diode/code/plsp0003zc_a.pdf
footprint PLSP0003ZC-A_N (SOT23, 3-Leads, Body 2.9x1.5mm, Pitch 0.95mm, Lead Span 2.8mm - Alternate Lead Configuration, IPC Medium Density)
footprint PLSP0003ZC-A_L (SOT23, 3-Leads, Body 2.9x1.5mm, Pitch 0.95mm, Lead Span 2.8mm - Alternate Lead Configuration, IPC High Density)
footprint PLSP0003ZC-A_M (SOT23, 3-Leads, Body 2.9x1.5mm, Pitch 0.95mm, Lead Span 2.8mm - Alternate Lead Configuration, IPC Low Density)
signal-integrity model HZM16NB1
part A pins: 2 A, 3 K
part B pins: 1 NC

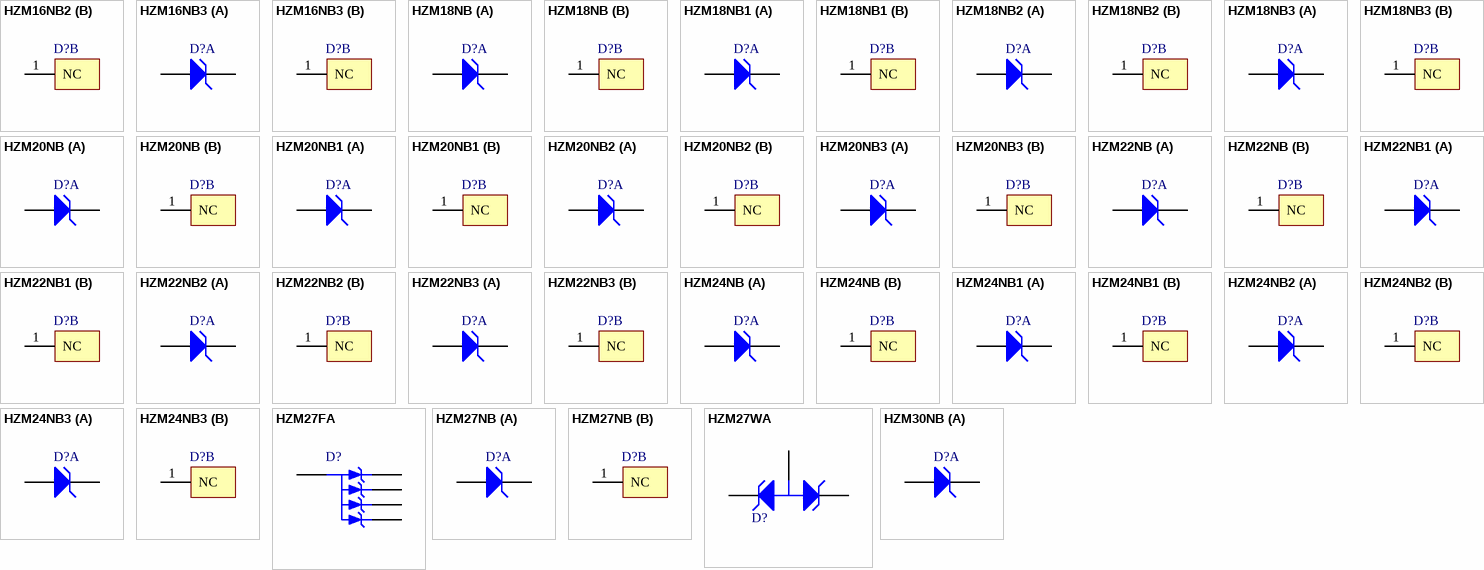
[diagram p20: symbols HZM16NB2 to HZM30NB]